# Altium schematic symbol library IFX9201SG.SchLib: 1 symbol
Pins are listed as number, name and electrical type; pins without a type are passive.

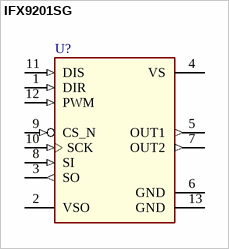
[diagram p0: symbol IFX9201SG]

## IFX9201SG
designator U?  (value not drawn)
6 A H-Bridge with SPI; Manufacturer: Infineon Technologies; ManufacturerPartNumber: IFX9201SG; PackageReference: PG-DSO-12-17
footprint SOP100P1030X260-13N
pins: 1 DIR (in) "Direction input to define direction of the motor current", 2 VSO (power) "Supply pin for SO output. Connect to 5V or 3.3V depending on desired logic level", 3 SO (out) "SPI serial output", 4 VS (power) "Supply voltage", 5 OUT1 (out) "Output 1", 6 GND (power) "Ground", 7 OUT2 (out) "Output 2", 8 SI (in) "SPI serial input", 9 CS_N (in) "SPI chip select (low active)", 10 SCK (in) "SPI clock input", 11 DIS (in) "Disable. Disables the outputs (all MOSFETS off)", 12 PWM (in) "Pulse width modulation input", 13 GND (power) "heat slug (GND)"